# Altium footprint library SamTec_FMC.PcbLib: 1 footprints
Each footprint in its own frame and in the unit in brackets; x right, y up, seen from the top. Pads: shape width x height; smd on the part's side, far side on the other; paste and mask are expansions set on the pad; w line width, h text height; cw(c..) or ccw(c..) is an arc to the next point about the centre after c.
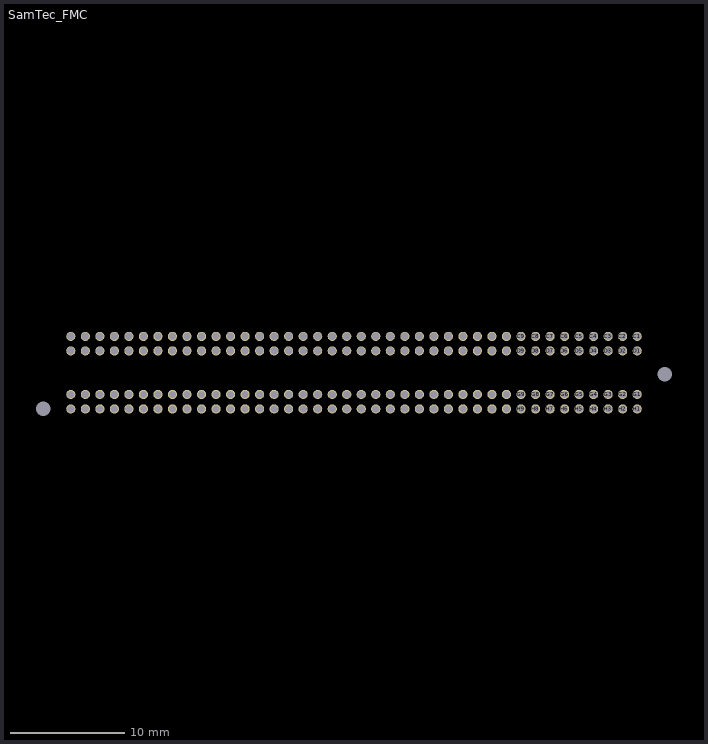
[diagram p0: the footprint, top view; thin cyan lines are the x and y axes]

## SamTec_FMC [mm]
pads (162):
  round 0.8 hole 0.64: C1(-685.165,-616.331) C2(-686.435,-616.331) C3(-687.705,-616.331) C4(-688.975,-616.331) C5(-690.245,-616.331) C6(-691.515,-616.331) C7(-692.785,-616.331) C8(-694.055,-616.331) C9(-695.325,-616.331) C10(-696.595,-616.331) C11(-697.865,-616.331) C12(-699.135,-616.331) C13(-700.405,-616.331) C14(-701.675,-616.331) C15(-702.945,-616.331) C16(-704.215,-616.331) C17(-705.485,-616.331) C18(-706.755,-616.331) C19(-708.025,-616.331) C20(-709.295,-616.331) C21(-710.565,-616.331) C22(-711.835,-616.331) C23(-713.105,-616.331) C24(-714.375,-616.331) C25(-715.645,-616.331) C26(-716.915,-616.331) C27(-718.185,-616.331) C28(-719.455,-616.331) C29(-720.725,-616.331) C30(-721.995,-616.331) C31(-723.265,-616.331) C32(-724.535,-616.331) C33(-725.805,-616.331) C34(-727.075,-616.331) C35(-728.345,-616.331) C36(-729.615,-616.331) C37(-730.885,-616.331) C38(-732.155,-616.331) C39(-733.425,-616.331) C40(-734.695,-616.331) D1(-685.165,-617.601) D2(-686.435,-617.601) D3(-687.705,-617.601) D4(-688.975,-617.601) D5(-690.245,-617.601) D6(-691.515,-617.601) D7(-692.785,-617.601) D8(-694.055,-617.601) D9(-695.325,-617.601) D10(-696.595,-617.601) D11(-697.865,-617.601) D12(-699.135,-617.601) D13(-700.405,-617.601) D14(-701.675,-617.601) D15(-702.945,-617.601) D16(-704.215,-617.601) D17(-705.485,-617.601) D18(-706.755,-617.601) D19(-708.025,-617.601) D20(-709.295,-617.601) D21(-710.565,-617.601) D22(-711.835,-617.601) D23(-713.105,-617.601) D24(-714.375,-617.601) D25(-715.645,-617.601) D26(-716.915,-617.601) D27(-718.185,-617.601) D28(-719.455,-617.601) D29(-720.725,-617.601) D30(-721.995,-617.601) D31(-723.265,-617.601) D32(-724.535,-617.601) D33(-725.805,-617.601) D34(-727.075,-617.601) D35(-728.345,-617.601) D36(-729.615,-617.601) D37(-730.885,-617.601) D38(-732.155,-617.601) D39(-733.425,-617.601) D40(-734.695,-617.601) G1(-685.165,-621.411) G2(-686.435,-621.411) G3(-687.705,-621.411) G4(-688.975,-621.411) G5(-690.245,-621.411) G6(-691.515,-621.411) G7(-692.785,-621.411) G8(-694.055,-621.411) G9(-695.325,-621.411) G10(-696.595,-621.411) G11(-697.865,-621.411) G12(-699.135,-621.411) G13(-700.405,-621.411) G14(-701.675,-621.411) G15(-702.945,-621.411) G16(-704.215,-621.411) G17(-705.485,-621.411) G18(-706.755,-621.411) G19(-708.025,-621.411) G20(-709.295,-621.411) G21(-710.565,-621.411) G22(-711.835,-621.411) G23(-713.105,-621.411) G24(-714.375,-621.411) G25(-715.645,-621.411) G26(-716.915,-621.411) G27(-718.185,-621.411) G28(-719.455,-621.411) G29(-720.725,-621.411) G30(-721.995,-621.411) G31(-723.265,-621.411) G32(-724.535,-621.411) G33(-725.805,-621.411) G34(-727.075,-621.411) G35(-728.345,-621.411) G36(-729.615,-621.411) G37(-730.885,-621.411) G38(-732.155,-621.411) G39(-733.425,-621.411) G40(-734.695,-621.411) H1(-685.165,-622.681) H2(-686.435,-622.681) H3(-687.705,-622.681) H4(-688.975,-622.681) H5(-690.245,-622.681) H6(-691.515,-622.681) H7(-692.785,-622.681) H8(-694.055,-622.681) H9(-695.325,-622.681) H10(-696.595,-622.681) H11(-697.865,-622.681) H12(-699.135,-622.681) H13(-700.405,-622.681) H14(-701.675,-622.681) H15(-702.945,-622.681) H16(-704.215,-622.681) H17(-705.485,-622.681) H18(-706.755,-622.681) H19(-708.025,-622.681) H20(-709.295,-622.681) H21(-710.565,-622.681) H22(-711.835,-622.681) H23(-713.105,-622.681) H24(-714.375,-622.681) H25(-715.645,-622.681) H26(-716.915,-622.681) H27(-718.185,-622.681) H28(-719.455,-622.681) H29(-720.725,-622.681) H30(-721.995,-622.681) H31(-723.265,-622.681) H32(-724.535,-622.681) H33(-725.805,-622.681) H34(-727.075,-622.681) H35(-728.345,-622.681) H36(-729.615,-622.681) H37(-730.885,-622.681) H38(-732.155,-622.681) H39(-733.425,-622.681) H40(-734.695,-622.681)
  round 0.8 hole 1.27: MH1(-737.121,-622.681) MH2(-682.739,-619.631)
3D body: height 5.88, standoff -2.51, extent -737.768,-626.847 -681.101,-612.165